# Altium footprint library 9-Comp+Tests.PcbLib: 125 footprints (part 8 of 8)
Each footprint in its own frame and in the unit in brackets; x right, y up, seen from the top. Pads: shape width x height; smd on the part's side, far side on the other; paste and mask are expansions set on the pad; w line width, h text height; cw(c..) or ccw(c..) is an arc to the next point about the centre after c.
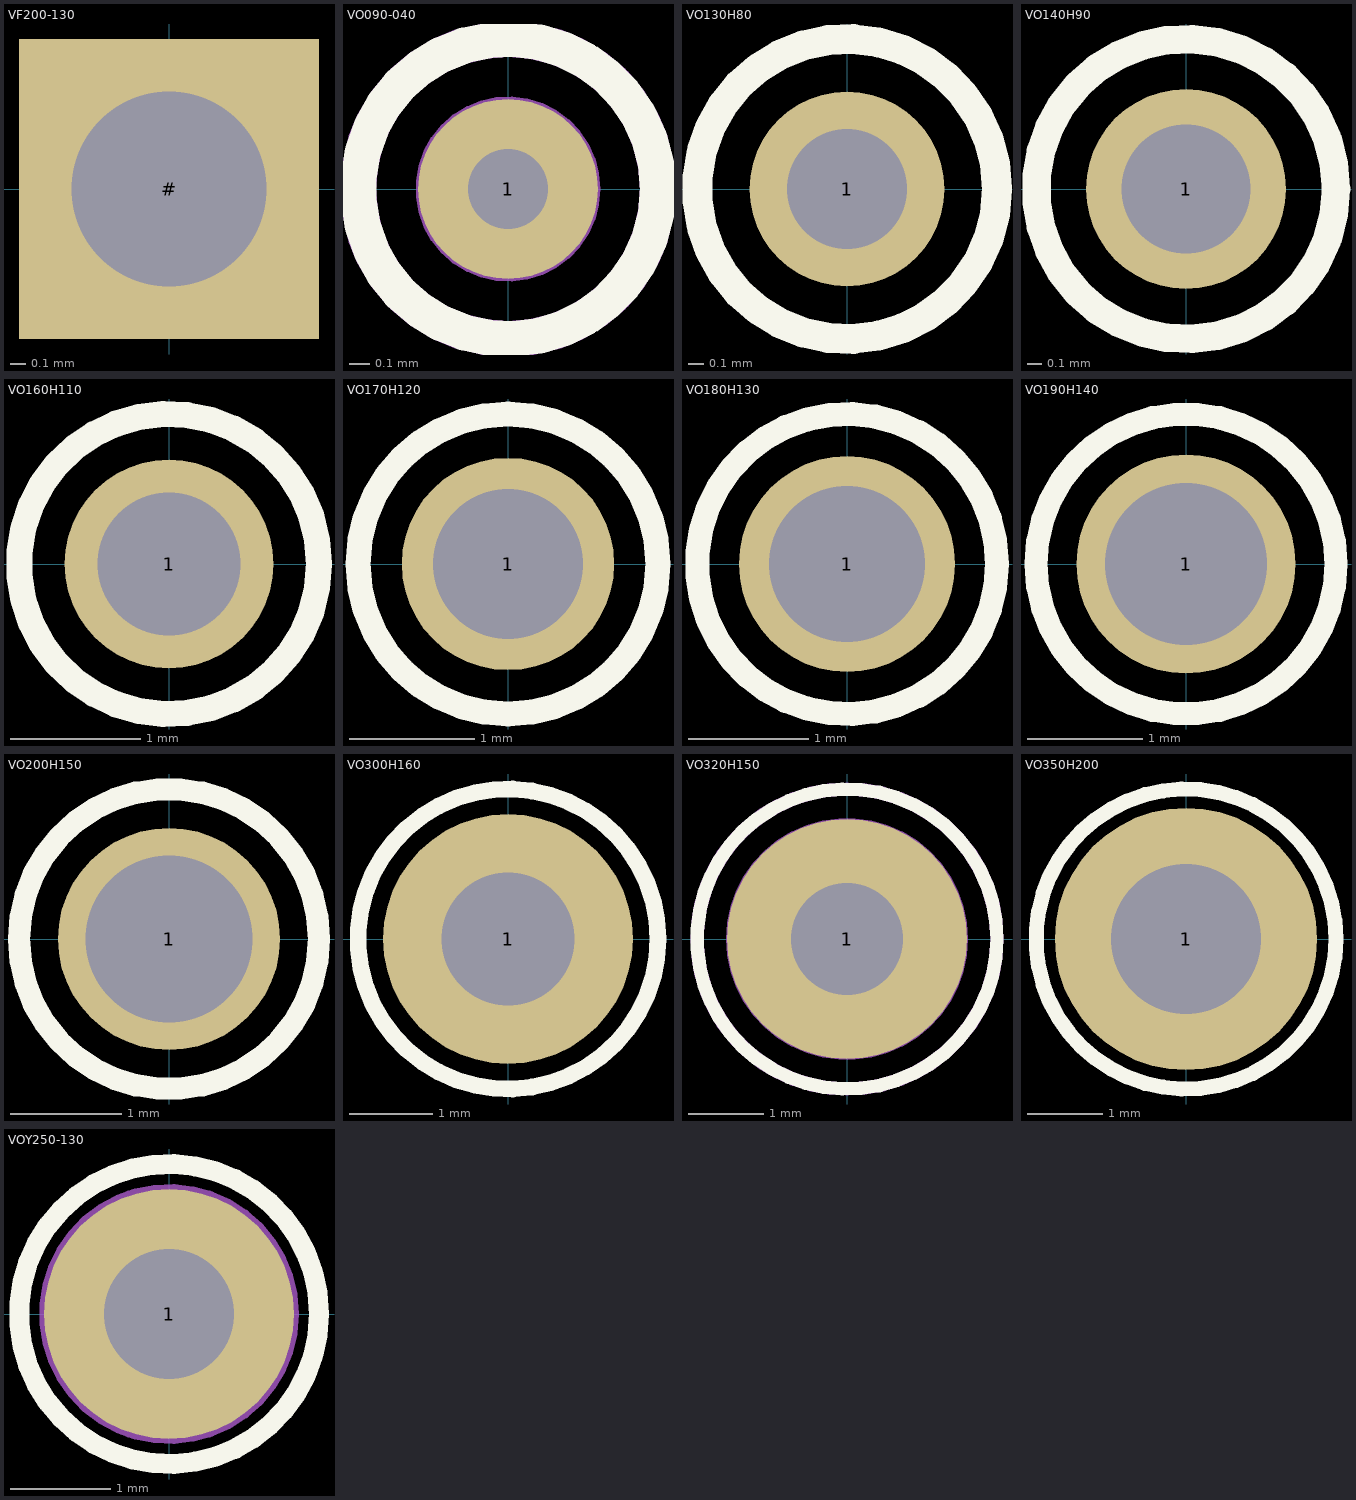
[diagram p7: the footprints below, top view; thin cyan lines are the x and y axes]

## VF200-130 [mm]
pads (1):
  rect 2x2 hole 1.3: #(0,0)
3D body "vF200-130.stp": height 0.01, standoff -1.65, extent -1,-1 1,1

## VO090-040 [mm] "TP_0MM4_0MM9"
pads (1):
  round 0.9 hole 0.4: 1(0,0)
Top Overlay:
  circle w0.18: c0,0 r0.75
Mechanical 6:
  lines w0.18: -0.75,0 cw(c0,0) 0,0.75 cw(c0,0) 0.75,0 cw(c0,0) 0,-0.75 cw(c0,0) -0.75,0
Mechanical 16:
  circle w0.025: c0,0 r0.45
  pour cut-out: 0.459,0 0.424,0.176 0.324,0.324 0.176,0.424 0,0.459 -0.176,0.424 -0.324,0.324 -0.424,0.176 -0.459,0 -0.424,-0.176 -0.324,-0.324 -0.176,-0.424 0,-0.459 0.176,-0.424 0.324,-0.324 0.424,-0.176
  pour cut-out: 0.408,0 0.377,0.156 0.288,0.288 0.156,0.377 0,0.408 -0.156,0.377 -0.288,0.288 -0.377,0.156 -0.408,0 -0.377,-0.156 -0.288,-0.288 -0.156,-0.377 0,-0.408 0.156,-0.377 0.288,-0.288 0.377,-0.156
Mechanical 18:
  text "1" at -0.4,0 h0.5
3D body "v090-040.stp": height 0.02, standoff -1.65, extent -0.45,-0.45 0.45,0.45

## VO130H80 [mm] "Plated Through Hole: Hole Dia.=0.8mm Pad Dia.=1.30mm"
height 11.7
pads (1):
  round 1.3 hole 0.8: 1(0,0)
Top Overlay:
  circle w0.2: c0,0 r1
Mechanical 14:
  circle w0.1: c0,0 r1
3D body "v130-080.stp": height 0.02, standoff -1.65, extent -0.65,-0.65 0.65,0.65

## VO140H90 [mm] "Plated Through Hole: Hole Dia.=0.9mm Pad Dia.=1.4mm"
height 11.7
pads (1):
  round 1.4 hole 0.9: 1(0,0)
Top Overlay:
  circle w0.2: c0,0 r1.05
Mechanical 14:
  circle w0.1: c0,0 r1.05
3D body "v140-090.stp": height 0.02, standoff -1.65, extent -0.7,-0.7 0.7,0.7

## VO160H110 [mm] "Plated Through Hole: Hole Dia.=1.1mm Pad Dia.=1.6mm"
height 11.7
pads (1):
  round 1.6 hole 1.1: 1(0,0)
Top Overlay:
  circle w0.2: c0,0 r1.15
Mechanical 14:
  circle w0.1: c0,0 r1.15
3D body "v160-110.stp": height 0.02, standoff -1.65, extent -0.8,-0.8 0.8,0.8

## VO170H120 [mm] "Plated Through Hole: Hole Dia.=1.2mm Pad Dia.=1.7mm"
height 11.7
pads (1):
  round 1.7 hole 1.2: 1(0,0)
Top Overlay:
  circle w0.2: c0,0 r1.2
Mechanical 14:
  circle w0.1: c0,0 r1.2
3D body "v170-120.stp": height 0.02, standoff -1.65, extent -0.85,-0.85 0.85,0.85

## VO180H130 [mm] "Plated Through Hole: Hole Dia.=1.3mm Pad Dia.=1.8mm"
height 11.7
pads (1):
  round 1.8 hole 1.3: 1(0,0)
Top Overlay:
  circle w0.2: c0,0 r1.25
Mechanical 14:
  circle w0.1: c0,0 r1.25
3D body "v180-130.stp": height 0.02, standoff -1.65, extent -0.9,-0.9 0.9,0.9

## VO190H140 [mm] "Plated Through Hole: Hole Dia.=1.4mm Pad Dia.=1.9mm"
height 11.7
pads (1):
  round 1.9 hole 1.4: 1(0,0)
Top Overlay:
  circle w0.2: c0,0 r1.3
Mechanical 14:
  circle w0.1: c0,0 r1.3
3D body "v190-140.stp": height 0.02, standoff -1.65, extent -0.95,-0.95 0.95,0.95

## VO200H150 [mm] "Plated Through Hole: Hole Dia.=1.5mm Pad Dia.=2.0mm"
height 11.7
pads (1):
  round 2 hole 1.5: 1(0,0)
Top Overlay:
  circle w0.2: c0,0 r1.35
Mechanical 14:
  circle w0.1: c0,0 r1.35
3D body "v200-150.stp": height 0.02, standoff -1.65, extent -1,-1 1,1

## VO300H160 [mm] "Plated Through Hole: Hole Dia.=1.6mm Pad Dia.=3mm"
height 11.7
pads (1):
  round 3 hole 1.6: 1(0,0)
Top Overlay:
  circle w0.2: c0,0 r1.8
Mechanical 14:
  circle w0.1: c0,0 r1
3D body "v300-150.stp": height 0.02, standoff -1.65, extent -1.5,-1.5 1.5,1.5

## VO320H150 [mm] "TP_KEYSTONE_5012"
height 11.7
pads (1):
  round 3.2 hole 1.5: 1(0,0)
Top Overlay:
  circle w0.18: c0,0 r2
Mechanical 6:
  lines w0.18: -2,0 ccw(c0,0) 0,-2 ccw(c0,0) 2,0 ccw(c0,0) 0,2 ccw(c0,0) -2,0
Mechanical 16:
  circle w0.025: c0,0 r1.6
  pour cut-out: 1.608,0 1.577,0.314 1.485,0.615 1.337,0.893 1.137,1.137 0.893,1.337 0.615,1.485 0.314,1.577 0,1.608 -0.314,1.577 -0.615,1.485 -0.893,1.337 -1.137,1.137 -1.337,0.893 -1.485,0.615 -1.577,0.314 -1.608,0 -1.577,-0.314 -1.485,-0.615 -1.337,-0.893 -1.137,-1.137 -0.893,-1.337 -0.615,-1.485 -0.314,-1.577 0,-1.608 0.314,-1.577 0.615,-1.485 0.893,-1.337 1.137,-1.137 1.337,-0.893 1.485,-0.615 1.577,-0.314
  pour cut-out: 1.608,0 1.577,0.314 1.485,0.615 1.337,0.893 1.137,1.137 0.893,1.337 0.615,1.485 0.314,1.577 0,1.608 -0.314,1.577 -0.615,1.485 -0.893,1.337 -1.137,1.137 -1.337,0.893 -1.485,0.615 -1.577,0.314 -1.608,0 -1.577,-0.314 -1.485,-0.615 -1.337,-0.893 -1.137,-1.137 -0.893,-1.337 -0.615,-1.485 -0.314,-1.577 0,-1.608 0.314,-1.577 0.615,-1.485 0.893,-1.337 1.137,-1.137 1.337,-0.893 1.485,-0.615 1.577,-0.314
  lines w0.025: -1.4,-0.6 1.4,-0.6 1.4,0.6 -1.4,0.6 -1.4,-0.6
Mechanical 18:
  text "1" at -0.2,0 h0.5
Mechanical 20:
  text "TP" at -1.44,-0.953 h1.8
3D body "v320-150.stp": height 0.02, standoff -1.65, extent -1.6,-1.6 1.6,1.6

## VO350H200 [mm] "Plated Through Hole: Hole Dia.=2mm Pad Dia.=3.5mm"
height 11.7
pads (1):
  round 3.5 hole 2: 1(0,0)
Top Overlay:
  circle w0.2: c0,0 r2
Mechanical 14:
  circle w0.1: c0,0 r1
3D body "v350-200.stp": height 0.02, standoff -1.65, extent -1.75,-1.75 1.75,1.75

## VOY250-130 [mm] "Solder Fork Terminal ( hole 1.3 mm)"
height 4
pads (1):
  round 2.5 hole 1.3: 1(0,0)
Top Overlay:
  circle w0.2: c0,0 r1.5
Mechanical 8:
  lines w0.1: -1,0 0,0 ; 0,-1 0,0 ; 0,1 0,0 ; 1,0 0,0
Mechanical 14:
  circle w0.1: c0,0 r1.25
  lines w0.1: -0.4,-1.184 -0.4,-0.447 ccw(c0,0) 0.4,-0.447 0.4,-1.184 ; -0.4,1.184 -0.4,0.447 cw(c0,0) 0.4,0.447 0.4,1.184
3D body "FONDEX_18713.stp": height 4, standoff -2.6, extent -1.25,-1.25 1.25,1.25